# Altium integrated library Motorola DSP 24-Bit.IntLib: 35 symbols (part 3 of 3)
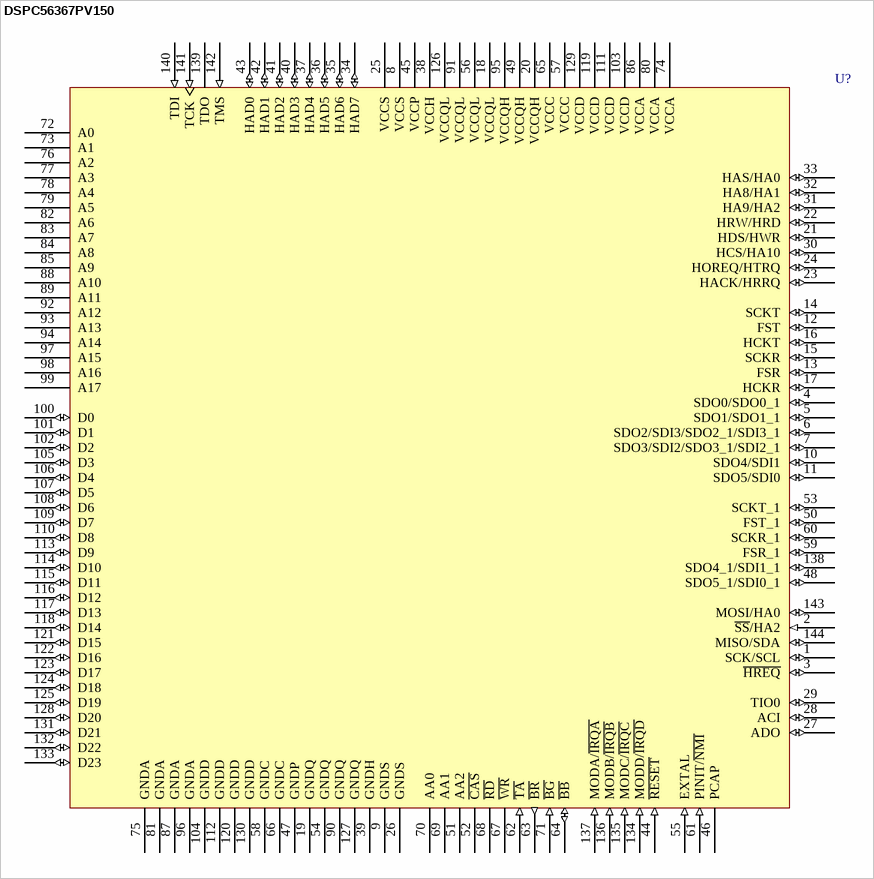
[diagram p27: symbol DSPC56367PV150]

## DSPC56367PV150
designator U?
DSP5636x Family Audio DSP; Published: 21-Mar-2003; LatestRevisionDate: 13-Apr-2006; LatestRevisionNote: IPC-7351 Footprint Added.; DatasheetVersion: Rev. 1.4, Jan-2002; PackageVersion: rev7, Jan-2002; PackageReference: 918-03; Publisher: Altium Limited; PackageDescription: 144-Pin Thin Quad Flat Pack 0.5 mm Pitch; ComponentLink1Description: Manufacturer Link; ComponentLink1URL: http://www.motorola.com/; ComponentLink2Description: User Guide; ComponentLink2URL: http://www.freescale.com/files/dsp/doc/user_guide/DSP56367UM.pdf
footprint 918-03_N (Thin QFP, 144-Leads, Body 20x20mm, Pitch 0.5mm, IPC Medium Density)
footprint 918-03_L (Thin QFP, 144-Leads, Body 20x20mm, Pitch 0.5mm, IPC High Density)
footprint 918-03_M (Thin QFP, 144-Leads, Body 20x20mm, Pitch 0.5mm, IPC Low Density)
3D model DSPC56367-918-03 (144-Pin Thin Quad Flat Pack 0.5 mm Pitch)
pins: 1 SCK/SCL (io), 2 ~{SS}/HA2 (in), 3 ~{HREQ} (io), 4 SDO0/SDO0_1 (io), 5 SDO1/SDO1_1 (io), 6 SDO2/SDI3/SDO2_1/SDI3_1 (io), 7 SDO3/SDI2/SDO3_1/SDI2_1 (io), 8 VCCS (power), 9 GNDS (power), 10 SDO4/SDI1 (io), 11 SDO5/SDI0 (io), 12 FST (io), 13 FSR (io), 14 SCKT (io), 15 SCKR (io), 16 HCKT (io), 17 HCKR (io), 18 VCCQL (power), 19 GNDQ (power), 20 VCCQH (power), 21 HDS/HWR (io), 22 HRW/HRD (io), 23 HACK/HRRQ (io), 24 HOREQ/HTRQ (io), 25 VCCS (power), 26 GNDS (power), 27 ADO (io), 28 ACI (io), 29 TIO0 (io), 30 HCS/HA10 (io), 31 HA9/HA2 (io), 32 HA8/HA1 (io), 33 HAS/HA0 (io), 34 HAD7 (io), 35 HAD6 (io), 36 HAD5 (io), 37 HAD4 (io), 38 VCCH (power), 39 GNDH (power), 40 HAD3 (io), 41 HAD2 (io), 42 HAD1 (io), 43 HAD0 (io), 44 ~{RESET} (in), 45 VCCP (power), 46 PCAP, 47 GNDP (power), 48 SDO5_1/SDI0_1 (io), 49 VCCQH (power), 50 FST_1 (io), 51 AA2 (hiz), 52 ~{CAS} (hiz), 53 SCKT_1 (io), 54 GNDQ (power), 55 EXTAL (in), 56 VCCQL (power), 57 VCCC (power), 58 GNDC (power), 59 FSR_1 (io), 60 SCKR_1 (io), 61 PINIT/~{NMI} (in), 62 ~{TA} (in), 63 ~{BR} (out), 64 ~{BB} (io), 65 VCCC (power), 66 GNDC (power), 67 ~{WR} (hiz), 68 ~{RD} (hiz), 69 AA1 (hiz), 70 AA0 (hiz), 71 ~{BG} (in), 72 A0 (hiz), 73 A1 (hiz), 74 VCCA (power), 75 GNDA (power), 76 A2 (hiz), 77 A3 (hiz), 78 A4 (hiz), 79 A5 (hiz), 80 VCCA (power), 81 GNDA (power), 82 A6 (hiz), 83 A7 (hiz), 84 A8 (hiz), 85 A9 (hiz), 86 VCCA (power), 87 GNDA (power), 88 A10 (hiz), 89 A11 (hiz), 90 GNDQ (power), 91 VCCQL (power), 92 A12 (hiz), 93 A13 (hiz), 94 A14 (hiz), 95 VCCQH (power), 96 GNDA (power), 97 A15 (hiz), 98 A16 (hiz), 99 A17 (hiz), 100 D0 (io), 101 D1 (io), 102 D2 (io), 103 VCCD (power), 104 GNDD (power), 105 D3 (io), 106 D4 (io), 107 D5 (io), 108 D6 (io), 109 D7 (io), 110 D8 (io), 111 VCCD (power), 112 GNDD (power), 113 D9 (io), 114 D10 (io), 115 D11 (io), 116 D12 (io), 117 D13 (io), 118 D14 (io), 119 VCCD (power), 120 GNDD (power), 121 D15 (io), 122 D16 (io), 123 D17 (io), 124 D18 (io), 125 D19 (io), 126 VCCQL (power), 127 GNDQ (power), 128 D20 (io), 129 VCCD (power), 130 GNDD (power), 131 D21 (io), 132 D22 (io), 133 D23 (io), 134 MODD/~{IRQD} (in), 135 MODC/~{IRQC} (in), 136 MODB/~{IRQB} (in), 137 MODA/~{IRQA} (in), 138 SDO4_1/SDI1_1 (io), 139 TDO (hiz), 140 TDI (in), 141 TCK (in), 142 TMS (in), 143 MOSI/HA0 (io), 144 MISO/SDA (io)

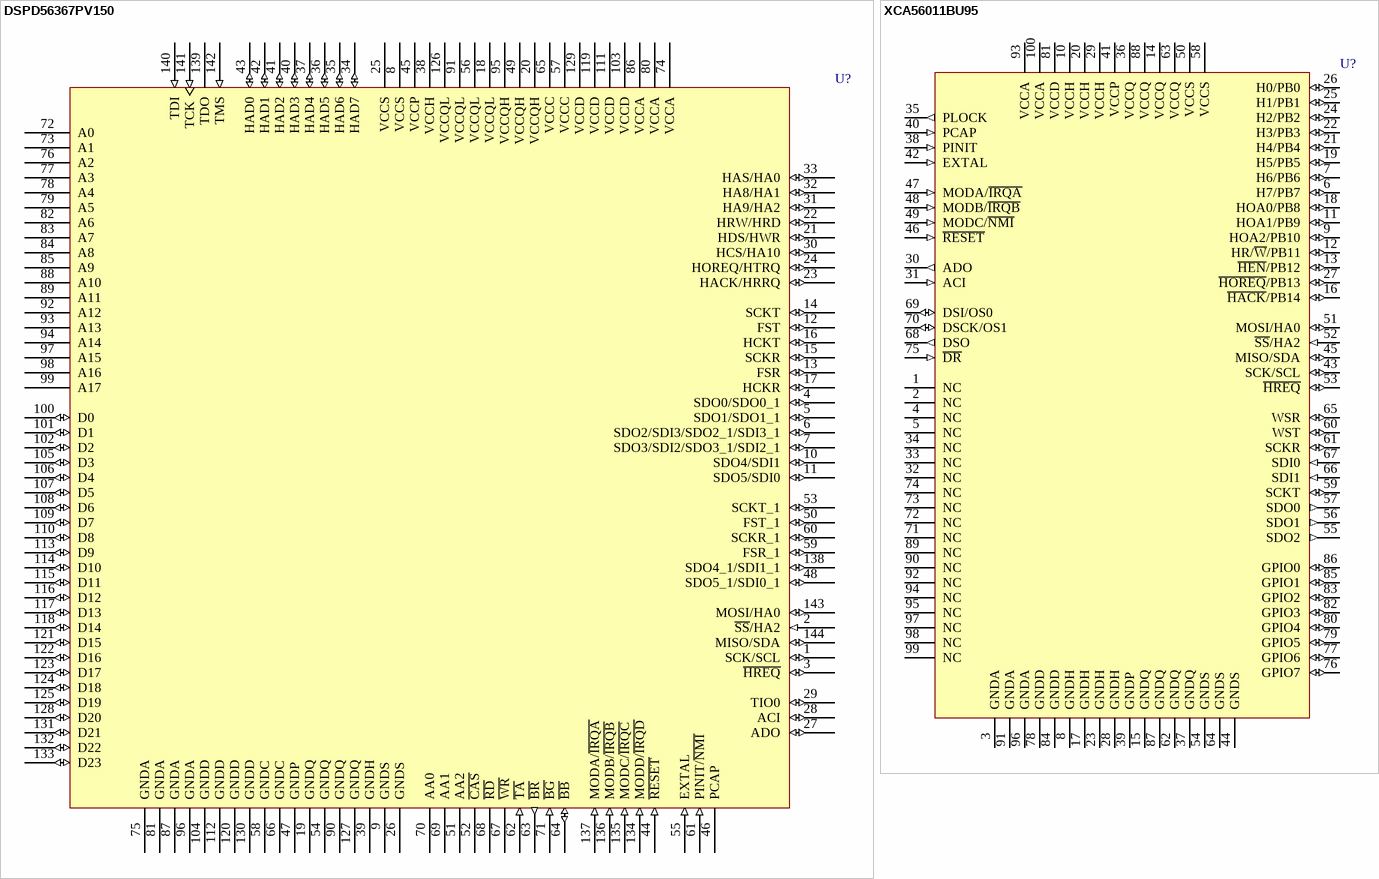
[diagram p22: symbols DSPD56367PV150 to XCA56011BU95]

## DSPD56367PV150
designator U?
DSP5636x Family Audio DSP; Published: 21-Mar-2003; LatestRevisionDate: 13-Apr-2006; LatestRevisionNote: IPC-7351 Footprint Added.; DatasheetVersion: Rev. 1.4, Jan-2002; PackageVersion: rev7, Jan-2002; PackageReference: 918-03; Publisher: Altium Limited; PackageDescription: 144-Pin Thin Quad Flat Pack 0.5 mm Pitch; ComponentLink1Description: Manufacturer Link; ComponentLink1URL: http://www.motorola.com/; ComponentLink2Description: User Guide; ComponentLink2URL: http://www.freescale.com/files/dsp/doc/user_guide/DSP56367UM.pdf
footprint 918-03_N (Thin QFP, 144-Leads, Body 20x20mm, Pitch 0.5mm, IPC Medium Density)
footprint 918-03_L (Thin QFP, 144-Leads, Body 20x20mm, Pitch 0.5mm, IPC High Density)
footprint 918-03_M (Thin QFP, 144-Leads, Body 20x20mm, Pitch 0.5mm, IPC Low Density)
3D model DSPD56367-918-03 (144-Pin Thin Quad Flat Pack 0.5 mm Pitch)
pins: 1 SCK/SCL (io), 2 ~{SS}/HA2 (in), 3 ~{HREQ} (io), 4 SDO0/SDO0_1 (io), 5 SDO1/SDO1_1 (io), 6 SDO2/SDI3/SDO2_1/SDI3_1 (io), 7 SDO3/SDI2/SDO3_1/SDI2_1 (io), 8 VCCS (power), 9 GNDS (power), 10 SDO4/SDI1 (io), 11 SDO5/SDI0 (io), 12 FST (io), 13 FSR (io), 14 SCKT (io), 15 SCKR (io), 16 HCKT (io), 17 HCKR (io), 18 VCCQL (power), 19 GNDQ (power), 20 VCCQH (power), 21 HDS/HWR (io), 22 HRW/HRD (io), 23 HACK/HRRQ (io), 24 HOREQ/HTRQ (io), 25 VCCS (power), 26 GNDS (power), 27 ADO (io), 28 ACI (io), 29 TIO0 (io), 30 HCS/HA10 (io), 31 HA9/HA2 (io), 32 HA8/HA1 (io), 33 HAS/HA0 (io), 34 HAD7 (io), 35 HAD6 (io), 36 HAD5 (io), 37 HAD4 (io), 38 VCCH (power), 39 GNDH (power), 40 HAD3 (io), 41 HAD2 (io), 42 HAD1 (io), 43 HAD0 (io), 44 ~{RESET} (in), 45 VCCP (power), 46 PCAP, 47 GNDP (power), 48 SDO5_1/SDI0_1 (io), 49 VCCQH (power), 50 FST_1 (io), 51 AA2 (hiz), 52 ~{CAS} (hiz), 53 SCKT_1 (io), 54 GNDQ (power), 55 EXTAL (in), 56 VCCQL (power), 57 VCCC (power), 58 GNDC (power), 59 FSR_1 (io), 60 SCKR_1 (io), 61 PINIT/~{NMI} (in), 62 ~{TA} (in), 63 ~{BR} (out), 64 ~{BB} (io), 65 VCCC (power), 66 GNDC (power), 67 ~{WR} (hiz), 68 ~{RD} (hiz), 69 AA1 (hiz), 70 AA0 (hiz), 71 ~{BG} (in), 72 A0 (hiz), 73 A1 (hiz), 74 VCCA (power), 75 GNDA (power), 76 A2 (hiz), 77 A3 (hiz), 78 A4 (hiz), 79 A5 (hiz), 80 VCCA (power), 81 GNDA (power), 82 A6 (hiz), 83 A7 (hiz), 84 A8 (hiz), 85 A9 (hiz), 86 VCCA (power), 87 GNDA (power), 88 A10 (hiz), 89 A11 (hiz), 90 GNDQ (power), 91 VCCQL (power), 92 A12 (hiz), 93 A13 (hiz), 94 A14 (hiz), 95 VCCQH (power), 96 GNDA (power), 97 A15 (hiz), 98 A16 (hiz), 99 A17 (hiz), 100 D0 (io), 101 D1 (io), 102 D2 (io), 103 VCCD (power), 104 GNDD (power), 105 D3 (io), 106 D4 (io), 107 D5 (io), 108 D6 (io), 109 D7 (io), 110 D8 (io), 111 VCCD (power), 112 GNDD (power), 113 D9 (io), 114 D10 (io), 115 D11 (io), 116 D12 (io), 117 D13 (io), 118 D14 (io), 119 VCCD (power), 120 GNDD (power), 121 D15 (io), 122 D16 (io), 123 D17 (io), 124 D18 (io), 125 D19 (io), 126 VCCQL (power), 127 GNDQ (power), 128 D20 (io), 129 VCCD (power), 130 GNDD (power), 131 D21 (io), 132 D22 (io), 133 D23 (io), 134 MODD/~{IRQD} (in), 135 MODC/~{IRQC} (in), 136 MODB/~{IRQB} (in), 137 MODA/~{IRQA} (in), 138 SDO4_1/SDI1_1 (io), 139 TDO (hiz), 140 TDI (in), 141 TCK (in), 142 TMS (in), 143 MOSI/HA0 (io), 144 MISO/SDA (io)

## XCA56011BU95
designator U?
24-Bit DVD Digital Signal Processor; Note: Do not connect to 'No Connect' Pins.; Published: 21-Mar-2003; LatestRevisionDate: 13-Apr-2006; LatestRevisionNote: IPC-7351 Footprint Added.; DatasheetVersion: Rev. 1, 1997; PackageVersion: rev3.1, Nov-2000; PackageReference: 983-02; Publisher: Altium Limited; PackageDescription: 100-Pin Shrink Quad Flat Pack 0.5 mm Pitch; Code_IPC: SQFP50P1600X1600-100; ComponentLink1Description: Manufacturer Link; ComponentLink1URL: http://www.motorola.com/
footprint 983-02_N (Shrink QFP, 100-Leads, Body 14x14mm, Pitch 0.5mm, IPC Medium Density)
footprint 983-02_L (Shrink QFP, 100-Leads, Body 14x14mm, Pitch 0.5mm, IPC High Density)
footprint 983-02_M (Shrink QFP, 100-Leads, Body 14x14mm, Pitch 0.5mm, IPC Low Density)
3D model XCA56011-983-02 (100-Pin Shrink Quad Flat Pack 0.5 mm Pitch)
pins: 1 NC, 2 NC, 3 GNDA (power), 4 NC, 5 NC, 6 H7/PB7 (io), 7 H6/PB6 (io), 8 GNDH (power), 9 HOA2/PB10 (io), 10 VCCH (power), 11 HOA1/PB9 (io), 12 HR/~{W}/PB11 (io), 13 ~{HEN}/PB12 (io), 14 VCCQ (power), 15 GNDQ (power), 16 ~{HACK}/PB14 (io), 17 GNDH (power), 18 HOA0/PB8 (io), 19 H5/PB5 (io), 20 VCCH (power), 21 H4/PB4 (io), 22 H3/PB3 (io), 23 GNDH (power), 24 H2/PB2 (io), 25 H1/PB1 (io), 26 H0/PB0 (io), 27 ~{HOREQ}/PB13 (io), 28 GNDH (power), 29 VCCH (power), 30 ADO (out), 31 ACI (in), 32 NC, 33 NC, 34 NC, 35 PLOCK (out), 36 VCCQ (power), 37 GNDQ (power), 38 PINIT (in), 39 GNDP (power), 40 PCAP (in), 41 VCCP (power), 42 EXTAL (in), 43 SCK/SCL (io), 44 GNDS (power), 45 MISO/SDA (io), 46 ~{RESET} (in), 47 MODA/~{IRQA} (in), 48 MODB/~{IRQB} (in), 49 MODC/~{NMI} (in), 50 VCCS (power), 51 MOSI/HA0 (io), 52 ~{SS}/HA2 (in), 53 ~{HREQ} (io), 54 GNDS (power), 55 SDO2 (out), 56 SDO1 (out), 57 SDO0 (out), 58 VCCS (power), 59 SCKT (io), 60 WST (io), 61 SCKR (io), 62 GNDQ (power), 63 VCCQ (power), 64 GNDS (power), 65 WSR (io), 66 SDI1 (in), 67 SDI0 (in), 68 DSO (out), 69 DSI/OS0 (io), 70 DSCK/OS1 (io), 71 NC, 72 NC, 73 NC, 74 NC, 75 ~{DR} (in), 76 GPIO7 (io), 77 GPIO6 (io), 78 GNDD (power), 79 GPIO5 (io), 80 GPIO4 (io), 81 VCCD (power), 82 GPIO3 (io), 83 GPIO2 (io), 84 GNDD (power), 85 GPIO1 (io), 86 GPIO0 (io), 87 GNDQ (power), 88 VCCQ (power), 89 NC, 90 NC, 91 GNDA (power), 92 NC, 93 VCCA (power), 94 NC, 95 NC, 96 GNDA (power), 97 NC, 98 NC, 99 NC, 100 VCCA (power)

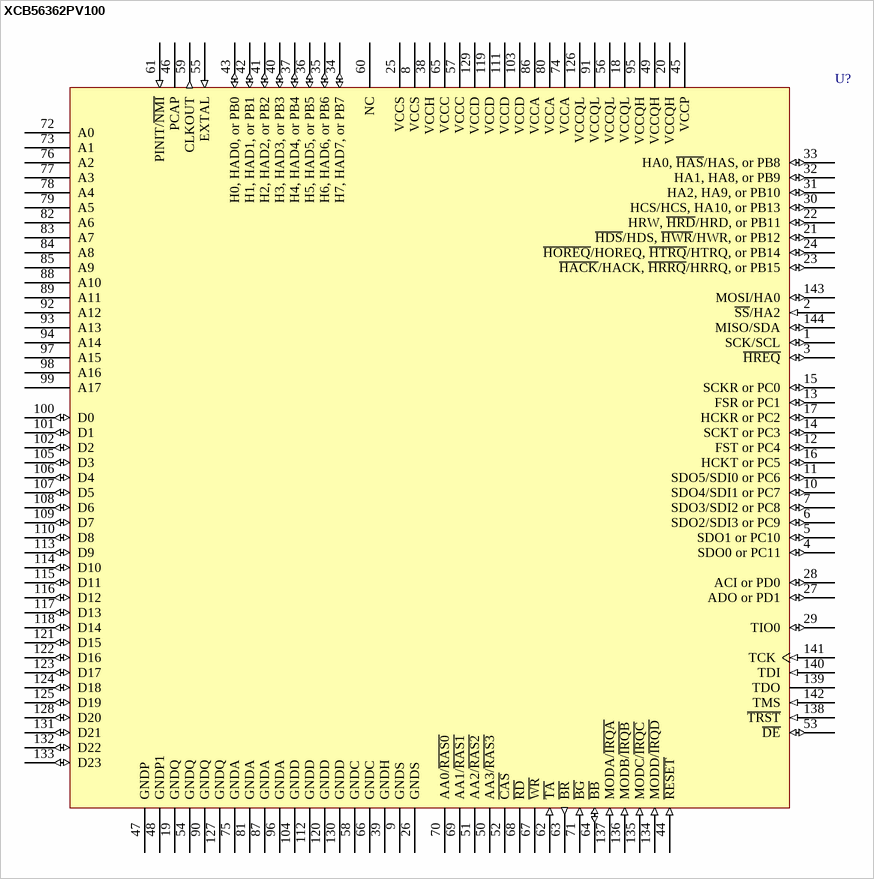
[diagram p23: symbol XCB56362PV100]

## XCB56362PV100
designator U?
DSP5636x Family Audio DSP; Published: 21-Mar-2003; LatestRevisionDate: 13-Apr-2006; LatestRevisionNote: IPC-7351 Footprint Added.; DatasheetVersion: Rev. 2.1, Nov-2000; PackageVersion: rev7, Jan-2002; PackageReference: 918-03; Publisher: Altium Limited; PackageDescription: 144-Pin Thin Quad Flat Pack 0.5 mm Pitch; ComponentLink1Description: Manufacturer Link; ComponentLink1URL: http://www.motorola.com/; ComponentLink2Description: Datasheet; ComponentLink2URL: http://www.freescale.com/files/dsp/doc/data_sheet/DSP56362.pdf
footprint 918-03_N (Thin QFP, 144-Leads, Body 20x20mm, Pitch 0.5mm, IPC Medium Density)
footprint 918-03_L (Thin QFP, 144-Leads, Body 20x20mm, Pitch 0.5mm, IPC High Density)
footprint 918-03_M (Thin QFP, 144-Leads, Body 20x20mm, Pitch 0.5mm, IPC Low Density)
3D model XCB56362-918-03 (144-Pin Thin Quad Flat Pack 0.5 mm Pitch)
pins: 1 SCK/SCL (io), 2 ~{SS}/HA2 (in), 3 ~{HREQ} (io), 4 SDO0 or PC11 (io), 5 SDO1 or PC10 (io), 6 SDO2/SDI3 or PC9 (io), 7 SDO3/SDI2 or PC8 (io), 8 VCCS (power), 9 GNDS (power), 10 SDO4/SDI1 or PC7 (io), 11 SDO5/SDI0 or PC6 (io), 12 FST or PC4 (io), 13 FSR or PC1 (io), 14 SCKT or PC3 (io), 15 SCKR or PC0 (io), 16 HCKT or PC5 (io), 17 HCKR or PC2 (io), 18 VCCQL (power), 19 GNDQ (power), 20 VCCQH (power), 21 ~{HDS}/HDS, ~{HWR}/HWR, or PB12 (io), 22 HRW, ~{HRD}/HRD, or PB11 (io), 23 ~{HACK}/HACK, ~{HRRQ}/HRRQ, or PB15 (io), 24 ~{HOREQ}/HOREQ, ~{HTRQ}/HTRQ, or PB14 (io), 25 VCCS (power), 26 GNDS (power), 27 ADO or PD1 (io), 28 ACI or PD0 (io), 29 TIO0 (io), 30 HCS/HCS, HA10, or PB13 (io), 31 HA2, HA9, or PB10 (io), 32 HA1, HA8, or PB9 (io), 33 HA0, ~{HAS}/HAS, or PB8 (io), 34 H7, HAD7, or PB7 (io), 35 H6, HAD6, or PB6 (io), 36 H5, HAD5, or PB5 (io), 37 H4, HAD4, or PB4 (io), 38 VCCH (power), 39 GNDH (power), 40 H3, HAD3, or PB3 (io), 41 H2, HAD2, or PB2 (io), 42 H1, HAD1, or PB1 (io), 43 H0, HAD0, or PB0 (io), 44 ~{RESET} (in), 45 VCCP (power), 46 PCAP, 47 GNDP (power), 48 GNDP1 (power), 49 VCCQH (power), 50 AA3/~{RAS3} (hiz), 51 AA2/~{RAS2} (hiz), 52 ~{CAS} (hiz), 53 ~{DE} (io), 54 GNDQ (power), 55 EXTAL (in), 56 VCCQL (power), 57 VCCC (power), 58 GNDC (power), 59 CLKOUT (out), 60 NC (hiz), 61 PINIT/~{NMI} (in), 62 ~{TA} (in), 63 ~{BR} (out), 64 ~{BB} (io), 65 VCCC (power), 66 GNDC (power), 67 ~{WR} (hiz), 68 ~{RD} (hiz), 69 AA1/~{RAS1} (hiz), 70 AA0/~{RAS0} (hiz), 71 ~{BG} (in), 72 A0 (hiz), 73 A1 (hiz), 74 VCCA (power), 75 GNDA (power), 76 A2 (hiz), 77 A3 (hiz), 78 A4 (hiz), 79 A5 (hiz), 80 VCCA (power), 81 GNDA (power), 82 A6 (hiz), 83 A7 (hiz), 84 A8 (hiz), 85 A9 (hiz), 86 VCCA (power), 87 GNDA (power), 88 A10 (hiz), 89 A11 (hiz), 90 GNDQ (power), 91 VCCQL (power), 92 A12 (hiz), 93 A13 (hiz), 94 A14 (hiz), 95 VCCQH (power), 96 GNDA (power), 97 A15 (hiz), 98 A16 (hiz), 99 A17 (hiz), 100 D0 (io), 101 D1 (io), 102 D2 (io), 103 VCCD (power), 104 GNDD (power), 105 D3 (io), 106 D4 (io), 107 D5 (io), 108 D6 (io), 109 D7 (io), 110 D8 (io), 111 VCCD (power), 112 GNDD (power), 113 D9 (io), 114 D10 (io), 115 D11 (io), 116 D12 (io), 117 D13 (io), 118 D14 (io), 119 VCCD (power), 120 GNDD (power), 121 D15 (io), 122 D16 (io), 123 D17 (io), 124 D18 (io), 125 D19 (io), 126 VCCQL (power), 127 GNDQ (power), 128 D20 (io), 129 VCCD (power), 130 GNDD (power), 131 D21 (io), 132 D22 (io), 133 D23 (io), 134 MODD/~{IRQD} (in), 135 MODC/~{IRQC} (in), 136 MODB/~{IRQB} (in), 137 MODA/~{IRQA} (in), 138 ~{TRST} (in), 139 TDO (hiz), 140 TDI (in), 141 TCK (in), 142 TMS (in), 143 MOSI/HA0 (io), 144 MISO/SDA (io)

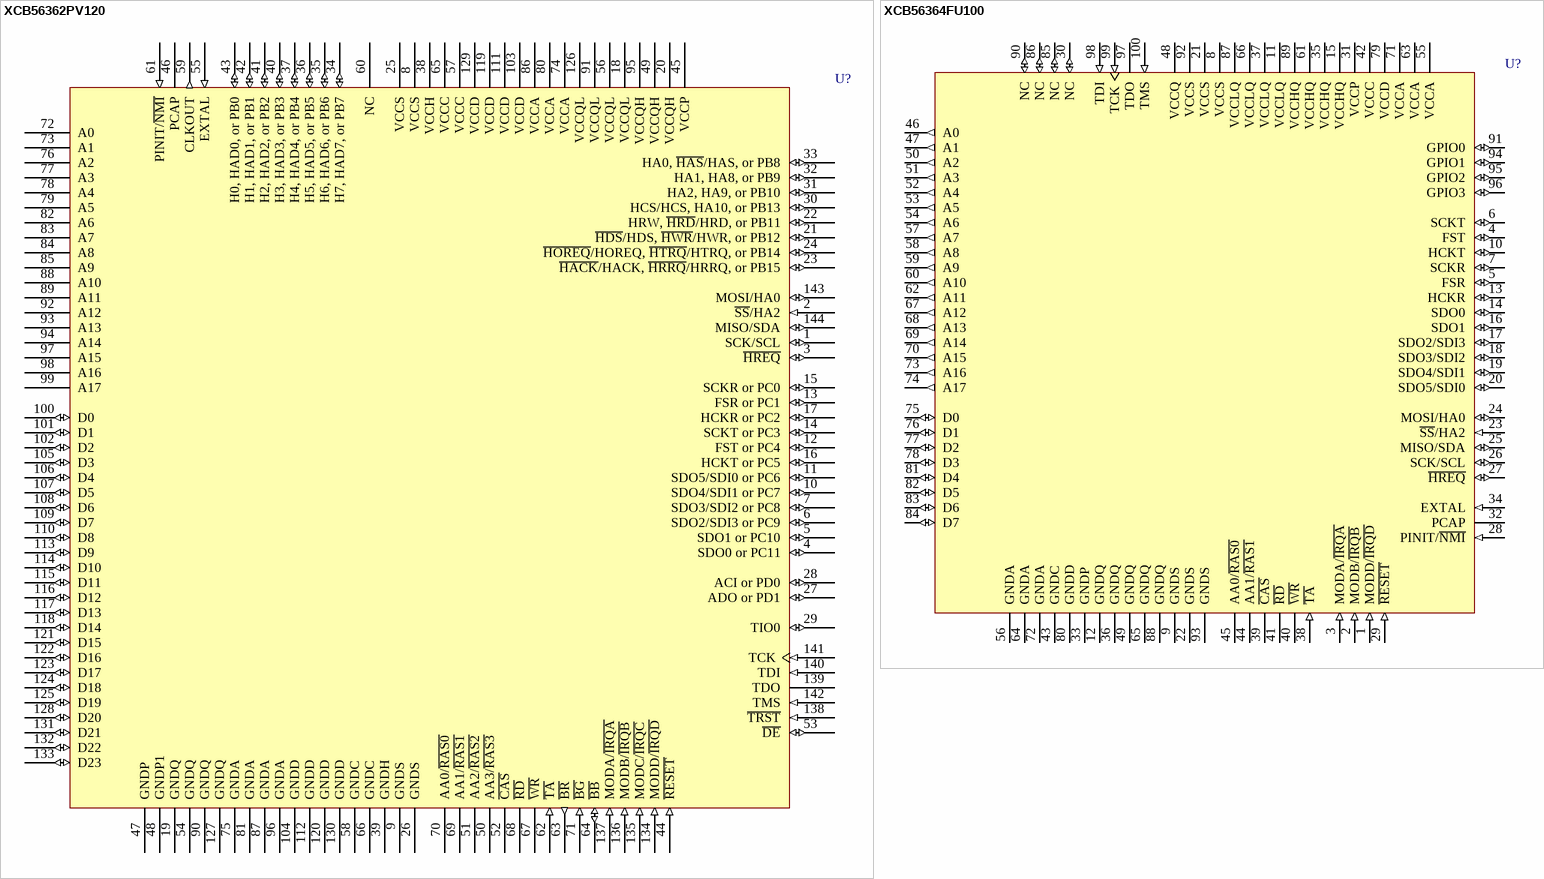
[diagram p24: symbols XCB56362PV120 to XCB56364FU100]

## XCB56362PV120
designator U?
DSP5636x Family Audio DSP; Published: 21-Mar-2003; LatestRevisionDate: 13-Apr-2006; LatestRevisionNote: IPC-7351 Footprint Added.; DatasheetVersion: Rev. 2.1, Nov-2000; PackageVersion: rev7, Jan-2002; PackageReference: 918-03; Publisher: Altium Limited; PackageDescription: 144-Pin Thin Quad Flat Pack 0.5 mm Pitch; ComponentLink1Description: Manufacturer Link; ComponentLink1URL: http://www.motorola.com/; ComponentLink2Description: Datasheet; ComponentLink2URL: http://www.freescale.com/files/dsp/doc/data_sheet/DSP56362.pdf
footprint 918-03_N (Thin QFP, 144-Leads, Body 20x20mm, Pitch 0.5mm, IPC Medium Density)
footprint 918-03_L (Thin QFP, 144-Leads, Body 20x20mm, Pitch 0.5mm, IPC High Density)
footprint 918-03_M (Thin QFP, 144-Leads, Body 20x20mm, Pitch 0.5mm, IPC Low Density)
3D model XCB56362-918-03 (144-Pin Thin Quad Flat Pack 0.5 mm Pitch)
pins: 1 SCK/SCL (io), 2 ~{SS}/HA2 (in), 3 ~{HREQ} (io), 4 SDO0 or PC11 (io), 5 SDO1 or PC10 (io), 6 SDO2/SDI3 or PC9 (io), 7 SDO3/SDI2 or PC8 (io), 8 VCCS (power), 9 GNDS (power), 10 SDO4/SDI1 or PC7 (io), 11 SDO5/SDI0 or PC6 (io), 12 FST or PC4 (io), 13 FSR or PC1 (io), 14 SCKT or PC3 (io), 15 SCKR or PC0 (io), 16 HCKT or PC5 (io), 17 HCKR or PC2 (io), 18 VCCQL (power), 19 GNDQ (power), 20 VCCQH (power), 21 ~{HDS}/HDS, ~{HWR}/HWR, or PB12 (io), 22 HRW, ~{HRD}/HRD, or PB11 (io), 23 ~{HACK}/HACK, ~{HRRQ}/HRRQ, or PB15 (io), 24 ~{HOREQ}/HOREQ, ~{HTRQ}/HTRQ, or PB14 (io), 25 VCCS (power), 26 GNDS (power), 27 ADO or PD1 (io), 28 ACI or PD0 (io), 29 TIO0 (io), 30 HCS/HCS, HA10, or PB13 (io), 31 HA2, HA9, or PB10 (io), 32 HA1, HA8, or PB9 (io), 33 HA0, ~{HAS}/HAS, or PB8 (io), 34 H7, HAD7, or PB7 (io), 35 H6, HAD6, or PB6 (io), 36 H5, HAD5, or PB5 (io), 37 H4, HAD4, or PB4 (io), 38 VCCH (power), 39 GNDH (power), 40 H3, HAD3, or PB3 (io), 41 H2, HAD2, or PB2 (io), 42 H1, HAD1, or PB1 (io), 43 H0, HAD0, or PB0 (io), 44 ~{RESET} (in), 45 VCCP (power), 46 PCAP, 47 GNDP (power), 48 GNDP1 (power), 49 VCCQH (power), 50 AA3/~{RAS3} (hiz), 51 AA2/~{RAS2} (hiz), 52 ~{CAS} (hiz), 53 ~{DE} (io), 54 GNDQ (power), 55 EXTAL (in), 56 VCCQL (power), 57 VCCC (power), 58 GNDC (power), 59 CLKOUT (out), 60 NC (hiz), 61 PINIT/~{NMI} (in), 62 ~{TA} (in), 63 ~{BR} (out), 64 ~{BB} (io), 65 VCCC (power), 66 GNDC (power), 67 ~{WR} (hiz), 68 ~{RD} (hiz), 69 AA1/~{RAS1} (hiz), 70 AA0/~{RAS0} (hiz), 71 ~{BG} (in), 72 A0 (hiz), 73 A1 (hiz), 74 VCCA (power), 75 GNDA (power), 76 A2 (hiz), 77 A3 (hiz), 78 A4 (hiz), 79 A5 (hiz), 80 VCCA (power), 81 GNDA (power), 82 A6 (hiz), 83 A7 (hiz), 84 A8 (hiz), 85 A9 (hiz), 86 VCCA (power), 87 GNDA (power), 88 A10 (hiz), 89 A11 (hiz), 90 GNDQ (power), 91 VCCQL (power), 92 A12 (hiz), 93 A13 (hiz), 94 A14 (hiz), 95 VCCQH (power), 96 GNDA (power), 97 A15 (hiz), 98 A16 (hiz), 99 A17 (hiz), 100 D0 (io), 101 D1 (io), 102 D2 (io), 103 VCCD (power), 104 GNDD (power), 105 D3 (io), 106 D4 (io), 107 D5 (io), 108 D6 (io), 109 D7 (io), 110 D8 (io), 111 VCCD (power), 112 GNDD (power), 113 D9 (io), 114 D10 (io), 115 D11 (io), 116 D12 (io), 117 D13 (io), 118 D14 (io), 119 VCCD (power), 120 GNDD (power), 121 D15 (io), 122 D16 (io), 123 D17 (io), 124 D18 (io), 125 D19 (io), 126 VCCQL (power), 127 GNDQ (power), 128 D20 (io), 129 VCCD (power), 130 GNDD (power), 131 D21 (io), 132 D22 (io), 133 D23 (io), 134 MODD/~{IRQD} (in), 135 MODC/~{IRQC} (in), 136 MODB/~{IRQB} (in), 137 MODA/~{IRQA} (in), 138 ~{TRST} (in), 139 TDO (hiz), 140 TDI (in), 141 TCK (in), 142 TMS (in), 143 MOSI/HA0 (io), 144 MISO/SDA (io)

## XCB56364FU100
designator U?
DSP5636x Family Audio DSP; Published: 21-Mar-2003; LatestRevisionDate: 13-Apr-2006; LatestRevisionNote: IPC-7351 Footprint Added.; DatasheetVersion: Rev. 3.1, Nov-2000; PackageVersion: rev3.1, Nov-2000; PackageReference: 983-02; Publisher: Altium Limited; PackageDescription: 100-Pin Shrink Quad Flat Pack 0.5 mm Pitch; Code_IPC: SQFP50P1600X1600-100; ComponentLink1Description: Manufacturer Link; ComponentLink1URL: http://www.motorola.com/; ComponentLink2Description: Datasheet; ComponentLink2URL: http://www.freescale.com/files/dsp/doc/data_sheet/DSP56364.pdf
footprint 983-02_N (Shrink QFP, 100-Leads, Body 14x14mm, Pitch 0.5mm, IPC Medium Density)
footprint 983-02_L (Shrink QFP, 100-Leads, Body 14x14mm, Pitch 0.5mm, IPC High Density)
footprint 983-02_M (Shrink QFP, 100-Leads, Body 14x14mm, Pitch 0.5mm, IPC Low Density)
3D model XCB56364-983-02 (100-Pin Shrink Quad Flat Pack 0.5 mm Pitch)
pins: 1 MODD/~{IRQD} (in), 2 MODB/~{IRQB} (in), 3 MODA/~{IRQA} (in), 4 FST (io), 5 FSR (io), 6 SCKT (io), 7 SCKR (io), 8 VCCS (power), 9 GNDS (power), 10 HCKT (io), 11 VCCLQ (power), 12 GNDQ (power), 13 HCKR (io), 14 SDO0 (io), 15 VCCHQ (power), 16 SDO1 (io), 17 SDO2/SDI3 (io), 18 SDO3/SDI2 (io), 19 SDO4/SDI1 (io), 20 SDO5/SDI0 (io), 21 VCCS (power), 22 GNDS (power), 23 ~{SS}/HA2 (in), 24 MOSI/HA0 (io), 25 MISO/SDA (io), 26 SCK/SCL (io), 27 ~{HREQ} (io), 28 PINIT/~{NMI} (in), 29 ~{RESET} (in), 30 NC (io), 31 VCCP (power), 32 PCAP, 33 GNDP (power), 34 EXTAL (in), 35 VCCHQ (power), 36 GNDQ (power), 37 VCCLQ (power), 38 ~{TA} (in), 39 ~{CAS} (hiz), 40 ~{WR} (hiz), 41 ~{RD} (hiz), 42 VCCC (power), 43 GNDC (power), 44 AA1/~{RAS1} (hiz), 45 AA0/~{RAS0} (hiz), 46 A0 (out), 47 A1 (out), 48 VCCQ (power), 49 GNDQ (power), 50 A2 (out), 51 A3 (out), 52 A4 (out), 53 A5 (out), 54 A6 (out), 55 VCCA (power), 56 GNDA (power), 57 A7 (out), 58 A8 (out), 59 A9 (out), 60 A10 (out), 61 VCCHQ (power), 62 A11 (out), 63 VCCA (power), 64 GNDA (power), 65 GNDQ (power), 66 VCCLQ (power), 67 A12 (out), 68 A13 (out), 69 A14 (out), 70 A15 (out), 71 VCCA (power), 72 GNDA (power), 73 A16 (out), 74 A17 (out), 75 D0 (io), 76 D1 (io), 77 D2 (io), 78 D3 (io), 79 VCCD (power), 80 GNDD (power), 81 D4 (io), 82 D5 (io), 83 D6 (io), 84 D7 (io), 85 NC (io), 86 NC (io), 87 VCCLQ (power), 88 GNDQ (power), 89 VCCHQ (power), 90 NC (io), 91 GPIO0 (io), 92 VCCS (power), 93 GNDS (power), 94 GPIO1 (io), 95 GPIO2 (io), 96 GPIO3 (io), 97 TDO (hiz), 98 TDI (in), 99 TCK (in), 100 TMS (in)

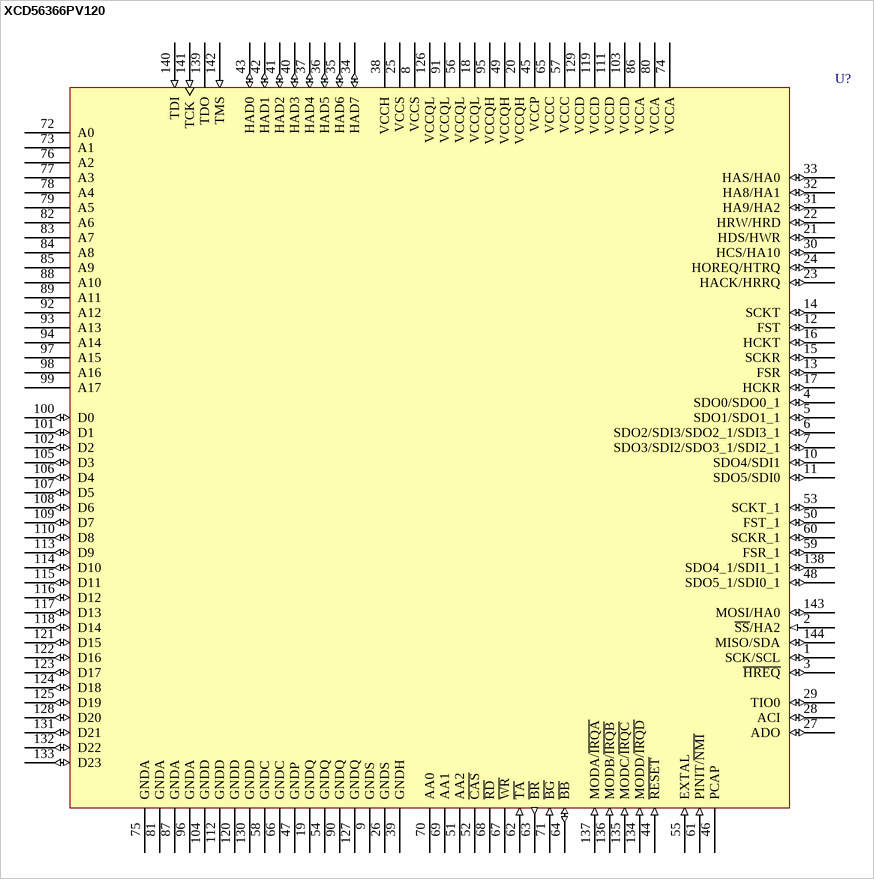
[diagram p25: symbol XCD56366PV120]

## XCD56366PV120
designator U?
DSP5636x Family Audio DSP; Published: 21-Mar-2003; LatestRevisionDate: 13-Apr-2006; LatestRevisionNote: IPC-7351 Footprint Added.; DatasheetVersion: Rev. 1.3, Dec-2001; PackageVersion: rev7, Jan-2002; PackageReference: 918-03; Publisher: Altium Limited; PackageDescription: 144-Pin Thin Quad Flat Pack 0.5 mm Pitch; ComponentLink1Description: Manufacturer Link; ComponentLink1URL: http://www.motorola.com/; ComponentLink2Description: Datasheet; ComponentLink2URL: http://www.freescale.com/files/dsp/doc/data_sheet/DSP56366.pdf
footprint 918-03_N (Thin QFP, 144-Leads, Body 20x20mm, Pitch 0.5mm, IPC Medium Density)
footprint 918-03_L (Thin QFP, 144-Leads, Body 20x20mm, Pitch 0.5mm, IPC High Density)
footprint 918-03_M (Thin QFP, 144-Leads, Body 20x20mm, Pitch 0.5mm, IPC Low Density)
3D model XCD56366-918-03 (144-Pin Thin Quad Flat Pack 0.5 mm Pitch)
pins: 1 SCK/SCL (io), 2 ~{SS}/HA2 (in), 3 ~{HREQ} (io), 4 SDO0/SDO0_1 (io), 5 SDO1/SDO1_1 (io), 6 SDO2/SDI3/SDO2_1/SDI3_1 (io), 7 SDO3/SDI2/SDO3_1/SDI2_1 (io), 8 VCCS (power), 9 GNDS (power), 10 SDO4/SDI1 (io), 11 SDO5/SDI0 (io), 12 FST (io), 13 FSR (io), 14 SCKT (io), 15 SCKR (io), 16 HCKT (io), 17 HCKR (io), 18 VCCQL (power), 19 GNDQ (power), 20 VCCQH (power), 21 HDS/HWR (io), 22 HRW/HRD (io), 23 HACK/HRRQ (io), 24 HOREQ/HTRQ (io), 25 VCCS (power), 26 GNDS (power), 27 ADO (io), 28 ACI (io), 29 TIO0 (io), 30 HCS/HA10 (io), 31 HA9/HA2 (io), 32 HA8/HA1 (io), 33 HAS/HA0 (io), 34 HAD7 (io), 35 HAD6 (io), 36 HAD5 (io), 37 HAD4 (io), 38 VCCH (power), 39 GNDH (power), 40 HAD3 (io), 41 HAD2 (io), 42 HAD1 (io), 43 HAD0 (io), 44 ~{RESET} (in), 45 VCCP (power), 46 PCAP, 47 GNDP (power), 48 SDO5_1/SDI0_1 (io), 49 VCCQH (power), 50 FST_1 (io), 51 AA2 (hiz), 52 ~{CAS} (hiz), 53 SCKT_1 (io), 54 GNDQ (power), 55 EXTAL (in), 56 VCCQL (power), 57 VCCC (power), 58 GNDC (power), 59 FSR_1 (io), 60 SCKR_1 (io), 61 PINIT/~{NMI} (in), 62 ~{TA} (in), 63 ~{BR} (out), 64 ~{BB} (io), 65 VCCC (power), 66 GNDC (power), 67 ~{WR} (hiz), 68 ~{RD} (hiz), 69 AA1 (hiz), 70 AA0 (hiz), 71 ~{BG} (in), 72 A0 (hiz), 73 A1 (hiz), 74 VCCA (power), 75 GNDA (power), 76 A2 (hiz), 77 A3 (hiz), 78 A4 (hiz), 79 A5 (hiz), 80 VCCA (power), 81 GNDA (power), 82 A6 (hiz), 83 A7 (hiz), 84 A8 (hiz), 85 A9 (hiz), 86 VCCA (power), 87 GNDA (power), 88 A10 (hiz), 89 A11 (hiz), 90 GNDQ (power), 91 VCCQL (power), 92 A12 (hiz), 93 A13 (hiz), 94 A14 (hiz), 95 VCCQH (power), 96 GNDA (power), 97 A15 (hiz), 98 A16 (hiz), 99 A17 (hiz), 100 D0 (io), 101 D1 (io), 102 D2 (io), 103 VCCD (power), 104 GNDD (power), 105 D3 (io), 106 D4 (io), 107 D5 (io), 108 D6 (io), 109 D7 (io), 110 D8 (io), 111 VCCD (power), 112 GNDD (power), 113 D9 (io), 114 D10 (io), 115 D11 (io), 116 D12 (io), 117 D13 (io), 118 D14 (io), 119 VCCD (power), 120 GNDD (power), 121 D15 (io), 122 D16 (io), 123 D17 (io), 124 D18 (io), 125 D19 (io), 126 VCCQL (power), 127 GNDQ (power), 128 D20 (io), 129 VCCD (power), 130 GNDD (power), 131 D21 (io), 132 D22 (io), 133 D23 (io), 134 MODD/~{IRQD} (in), 135 MODC/~{IRQC} (in), 136 MODB/~{IRQB} (in), 137 MODA/~{IRQA} (in), 138 SDO4_1/SDI1_1 (io), 139 TDO (hiz), 140 TDI (in), 141 TCK (in), 142 TMS (in), 143 MOSI/HA0 (io), 144 MISO/SDA (io)